# Altium footprint library Gravix-JST.PcbLib: 1 footprints
Each footprint in its own frame and in the unit in brackets; x right, y up, seen from the top. Pads: shape width x height; smd on the part's side, far side on the other; paste and mask are expansions set on the pad; w line width, h text height; cw(c..) or ccw(c..) is an arc to the next point about the centre after c.
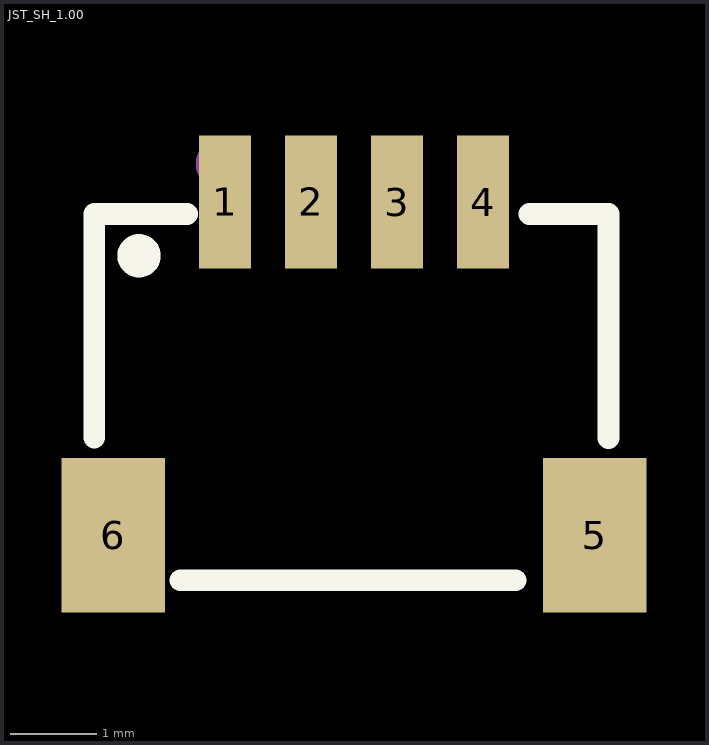
[diagram p0: the footprint, top view; thin cyan lines are the x and y axes]

## JST_SH_1.00 [mm]
pads (6):
  rect 0.6x1.55 smd paste+0 mask+0.051: 1(923.136,957.588) 2(924.136,957.588) 3(925.137,957.587) 4(926.136,957.587)
  rect 1.2x1.8 smd paste+0 mask+0.051: 5(927.436,953.712) 6(921.836,953.712)
Top Overlay:
  circle w0.254: c922.137,956.962 r0.125
  lines w0.254: 921.616,954.85 921.616,957.45 922.696,957.45 ; 922.616,953.19 926.516,953.19 ; 926.676,957.45 927.596,957.45 927.596,954.843
Mechanical 15:
  circle w0.3: c923.096,958.03 r0.15
3D body "4p_D.stp": height 2.94, standoff 0.03, extent 921.636,952.83 927.636,957.78